# Altium integrated library HD44780.IntLib: 1 symbol
Pins are listed as number, name and electrical type; pins without a type are passive.

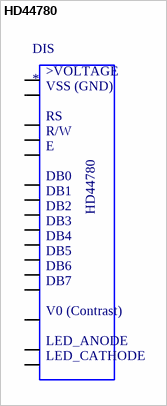
[diagram p0: symbol HD44780]

## HD44780
designator DIS
Character LCD Display Module Transflective 5 x 8 Dots STN - Super-Twisted Nematic LED - White Parallel 98.00mm x 60.00mm x 11.60mm; MF: Lumex Opto/Components; MP: HD44780; SnapEDA_Link: https://www.snapeda.com/parts/HD44780/Lumex%20Opto/Components%20Inc./view-part/44140/?ref=snap; Price: None; Availability: Unavailable; Package: None; Value: *
footprint 16026-16X2
pins: P$1 VSS (io), P$2 VDD (io), P$3 CONTRAST (io), P$4 RS (io), P$5 R/W (io), P$6 E (io), P$7 DB0 (io), P$8 DB1 (io), P$9 DB2 (io), P$10 DB3 (io), P$11 DB4 (io), P$12 DB5 (io), P$13 DB6 (io), P$14 DB7 (io), P$15 LED_A (io), P$16 LED_C (io)
text: >VOLTAGE; VSS (GND); V0 (Contrast); LED_ANODE; LED_CATHODE